# Altium integrated library Linear Technology PMIC-Switching Reg LTC1174-LTC3901.IntLib: 2647 symbols (part 43 of 310)
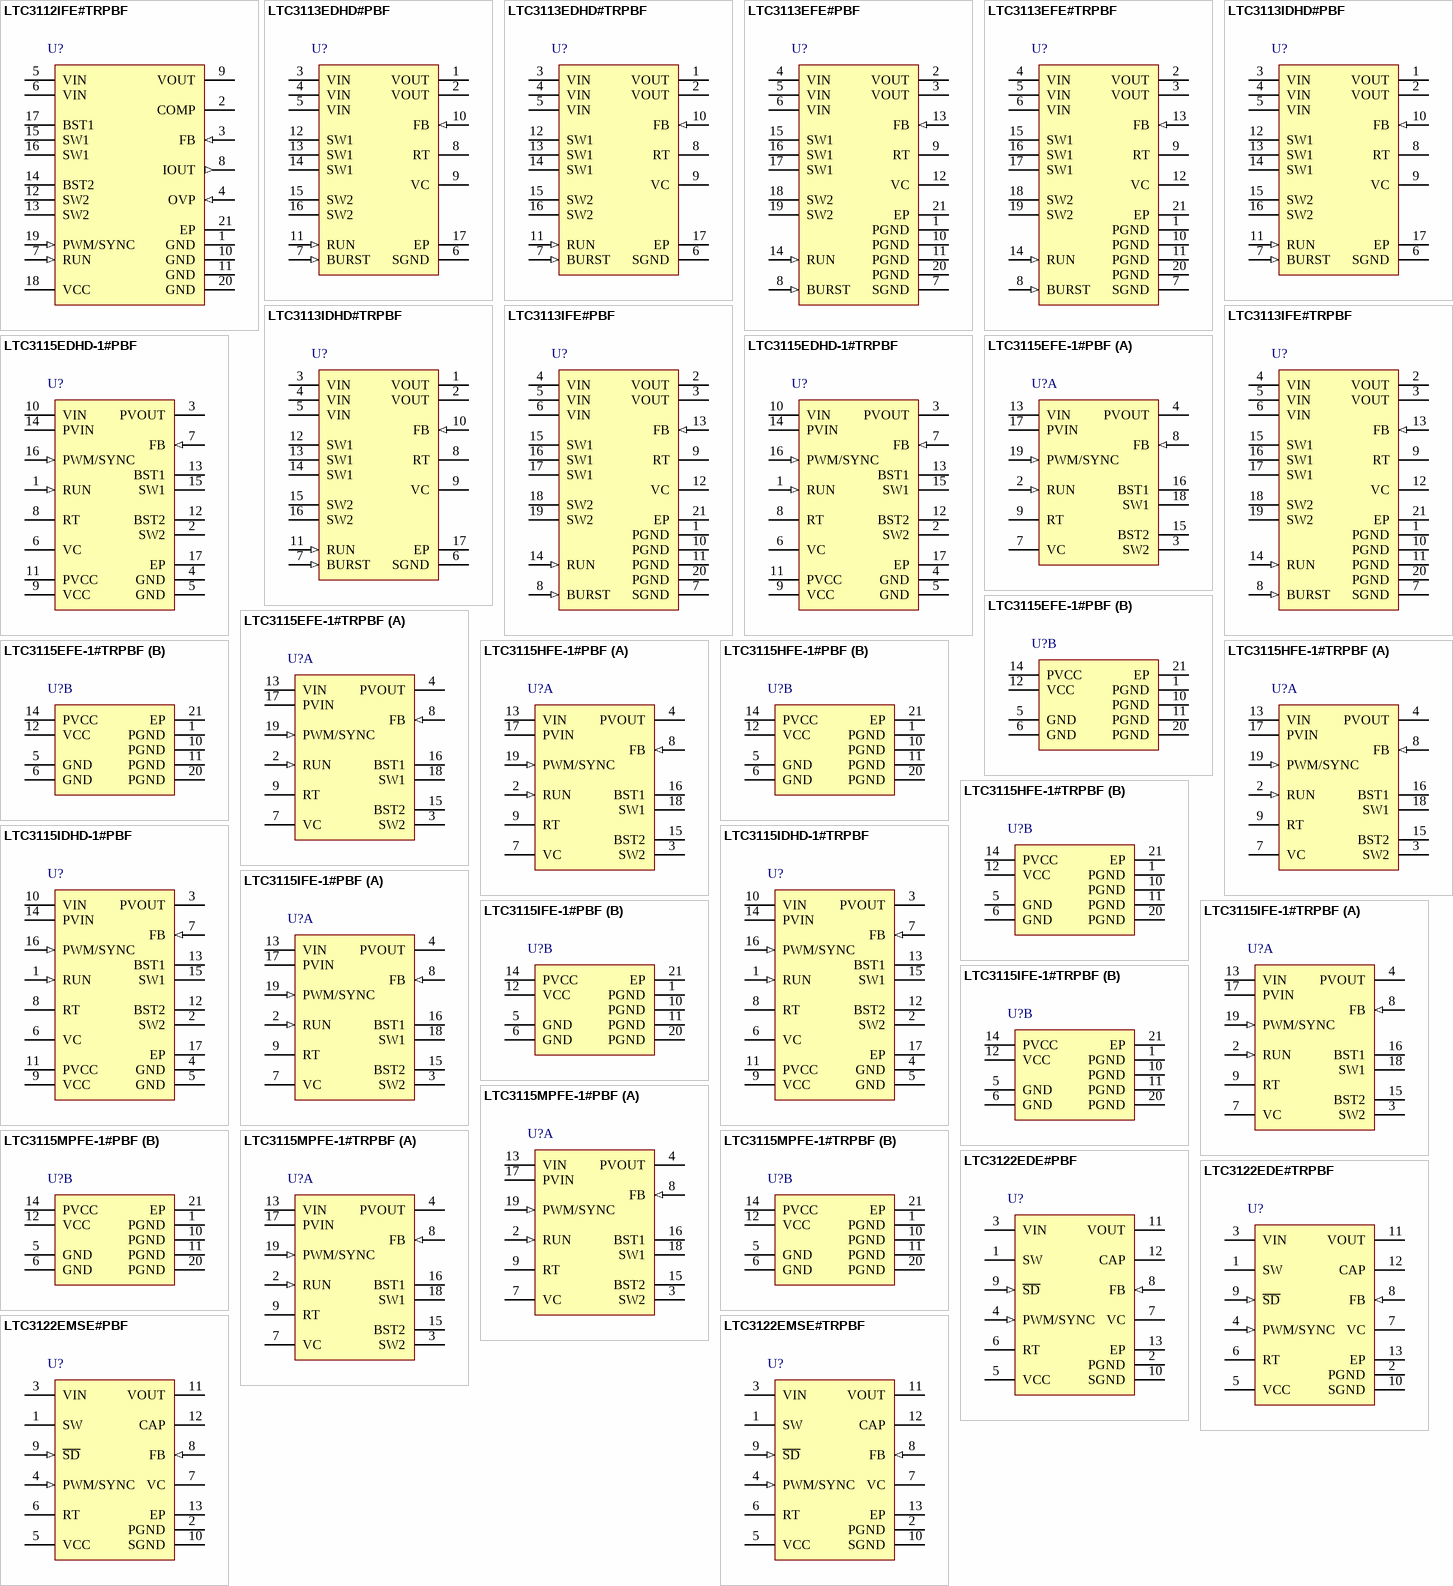
[diagram p141: symbols LTC3112IFE#TRPBF to LTC3122EMSE#TRPBF]

## LTC3122EDE#TRPBF
designator U?
2.5 A Synchronous Step-Up DC/DC Converter with Output Disconnect, 12-pin SON (DE-UE-12), -40 to 125 degC, Pb-Free, Tape and Reel; Manufacturer: Linear Technology; PartNumber: LTC3122EDE#TRPBF; Number of Outputs: 1; PackageReference: DE-UE-12; PackageDescription: 12-Pin Plastic DFN, Body 4 x 3 mm, Pitch 0.5 mm; Supplier 1: Digi-Key; Supplier Part Number 1: LTC3122EDE#TRPBF-ND; RoHS: TRUE; Code_JEDEC: MO-229
footprint LT-DE-UE-12_V (SON, 12-Leads, Body 4x3mm, Pitch 0.5mm, Thermal Pad 3.3x1.7mm)
pins: 1 SW "Switch Pin. Connect an inductor from this pin to VIN. Keep PCB trace lengths as short and wide as possible to reduce EMI and voltage overshoot. When VOUT >= VIN + 2V, an internal anti-ringing resistor is connected between SW (See Datasheet)", 2 PGND (power) "Power Ground. When laying out your PCB, provide a short, direct path between PGND and the output capacitor and tie directly to the ground plane. The exposed pad is ground and must be soldered to the PCB ground plane for (See Datasheet)", 3 VIN (power) "Input Supply Pin. The device is powered from VIN unless VOUT exceeds VIN and VIN is less than 3V. Place a low ESR ceramic bypass capacitor of at least 4.7uF from VIN to PGND. X5R and X7R dielectrics are preferred for their (See Datasheet)", 4 PWM/SYNC (in) "Burst Mode Operation Select and Oscillator Synchronization. Do not leave this pin floating.PWM/SYNC = High. Disable Burst Mode Operation and maintain low noise, constant frequency operation. PWM/SYNC = Low. The converter (See Datasheet)", 5 VCC (power) "VCC Regulator Output. Connect a low-ESR filter capacitor of at least 4.7uF from this pin to GND to provide a regulated rail approximately equal to the lower of VIN and 4.25V. When VOUT is higher than VIN, and VIN falls below (See Datasheet)", 6 RT "Frequency Adjust Pin. Connect an external resistor (RT) from this pin to SGND to program the oscillator frequency according to the formula: RT = 57.6/fOSC where fOSC is in MHz and RT is in kohm.", 7 VC "Error Amplifier Output. A frequency compensation network is connected to this pin to compensate the control loop. See Compensating the Feedback Loop section for guidelines.", 8 FB (in) "Feedback Input to the Error Amplifier. Connect the resistor divider tap to this pin. Connect the top of the divider to VOUT and the bottom of the divider to SGND. The output voltage can be adjusted from 2.2V to 15V according (See Datasheet)", 9 ~{SD} (in) "Logic Controlled Shutdown Input. Bringing this pin above 1.6V enables normal, free-running operation, forcing this pin below 0.25V shuts the LTC3122 down, with quiescent current below 1uA. Do not leave this pin floating.", 10 SGND (power) "Signal Ground. When laying out a PC board, provide a short, direct path between SGND and the (-) side of the output capacitor.", 11 VOUT (power) "Output Voltage Sense and the Source of the Internal Synchronous Rectifier MOSFET. Driver bias is derived from VOUT. Connect the output filter capacitor from VOUT to PGND, as close to the IC as possible. A minimum value of (See Datasheet)", 12 CAP "Serves as the Low Reference for the Synchronous Rectifier Gate Drive. Connect a low ESR filter capacitor (typically 100nF) from this pin to VOUT to provide an elevated ground rail, approximately 5.6V below VOUT, used to (See Datasheet)", 13 EP (power) "Power Ground. When laying out your PCB, provide a short, direct path between PGND and the output capacitor and tie directly to the ground plane. The exposed pad is ground and must be soldered to the PCB ground plane for (See Datasheet)"

## LTC3122EMSE#PBF
designator U?
2.5 A Synchronous Step-Up DC/DC Converter with Output Disconnect,12-pin SOP (MSE-12-EDP), -40 to 125 degC, Pb-Free; Manufacturer: Linear Technology; PartNumber: LTC3122EMSE#PBF; Number of Outputs: 1; PackageReference: MSE-12-EDP; PackageDescription: 12-Pin Plastic MSOP, Exposed Die Pad, Body 4.039 x 3 mm, Pitch 0.65 mm; Supplier 1: Digi-Key; Supplier Part Number 1: LTC3122EMSE#PBF-ND; RoHS: TRUE
footprint LT-MSE-12-EDP_N (SOP, 12-Leads, Body 4.1x3.1mm, Pitch 0.65mm, Thermal Pad 2.95x1.76mm, IPC Medium Density)
footprint LT-MSE-12-EDP_L (SOP, 12-Leads, Body 4.1x3.1mm, Pitch 0.65mm, Thermal Pad 2.95x1.76mm, IPC High Density)
footprint LT-MSE-12-EDP_M (SOP, 12-Leads, Body 4.1x3.1mm, Pitch 0.65mm, Thermal Pad 2.95x1.76mm, IPC Low Density)
pins: 1 SW "Switch Pin. Connect an inductor from this pin to VIN. Keep PCB trace lengths as short and wide as possible to reduce EMI and voltage overshoot. When VOUT >= VIN + 2V, an internal anti-ringing resistor is connected between SW (See Datasheet)", 2 PGND (power) "Power Ground. When laying out your PCB, provide a short, direct path between PGND and the output capacitor and tie directly to the ground plane. The exposed pad is ground and must be soldered to the PCB ground plane for (See Datasheet)", 3 VIN (power) "Input Supply Pin. The device is powered from VIN unless VOUT exceeds VIN and VIN is less than 3V. Place a low ESR ceramic bypass capacitor of at least 4.7uF from VIN to PGND. X5R and X7R dielectrics are preferred for their (See Datasheet)", 4 PWM/SYNC (in) "Burst Mode Operation Select and Oscillator Synchronization. Do not leave this pin floating.PWM/SYNC = High. Disable Burst Mode Operation and maintain low noise, constant frequency operation. PWM/SYNC = Low. The converter (See Datasheet)", 5 VCC (power) "VCC Regulator Output. Connect a low-ESR filter capacitor of at least 4.7uF from this pin to GND to provide a regulated rail approximately equal to the lower of VIN and 4.25V. When VOUT is higher than VIN, and VIN falls below (See Datasheet)", 6 RT "Frequency Adjust Pin. Connect an external resistor (RT) from this pin to SGND to program the oscillator frequency according to the formula: RT = 57.6/fOSC where fOSC is in MHz and RT is in kohm.", 7 VC "Error Amplifier Output. A frequency compensation network is connected to this pin to compensate the control loop. See Compensating the Feedback Loop section for guidelines.", 8 FB (in) "Feedback Input to the Error Amplifier. Connect the resistor divider tap to this pin. Connect the top of the divider to VOUT and the bottom of the divider to SGND. The output voltage can be adjusted from 2.2V to 15V according (See Datasheet)", 9 ~{SD} (in) "Logic Controlled Shutdown Input. Bringing this pin above 1.6V enables normal, free-running operation, forcing this pin below 0.25V shuts the LTC3122 down, with quiescent current below 1uA. Do not leave this pin floating.", 10 SGND (power) "Signal Ground. When laying out a PC board, provide a short, direct path between SGND and the (-) side of the output capacitor.", 11 VOUT (power) "Output Voltage Sense and the Source of the Internal Synchronous Rectifier MOSFET. Driver bias is derived from VOUT. Connect the output filter capacitor from VOUT to PGND, as close to the IC as possible. A minimum value of (See Datasheet)", 12 CAP "Serves as the Low Reference for the Synchronous Rectifier Gate Drive. Connect a low ESR filter capacitor (typically 100nF) from this pin to VOUT to provide an elevated ground rail, approximately 5.6V below VOUT, used to (See Datasheet)", 13 EP (power) "Power Ground. When laying out your PCB, provide a short, direct path between PGND and the output capacitor and tie directly to the ground plane. The exposed pad is ground and must be soldered to the PCB ground plane for (See Datasheet)"

## LTC3122EMSE#TRPBF
designator U?
2.5 A Synchronous Step-Up DC/DC Converter with Output Disconnect,12-pin SOP (MSE-12-EDP), -40 to 125 degC, Pb-Free, Tape and Reel; Manufacturer: Linear Technology; PartNumber: LTC3122EMSE#TRPBF; Number of Outputs: 1; PackageReference: MSE-12-EDP; PackageDescription: 12-Pin Plastic MSOP, Exposed Die Pad, Body 4.039 x 3 mm, Pitch 0.65 mm; Supplier 1: Digi-Key; Supplier Part Number 1: LTC3122EMSE#TRPBF-ND; RoHS: TRUE
footprint LT-MSE-12-EDP_N (SOP, 12-Leads, Body 4.1x3.1mm, Pitch 0.65mm, Thermal Pad 2.95x1.76mm, IPC Medium Density)
footprint LT-MSE-12-EDP_L (SOP, 12-Leads, Body 4.1x3.1mm, Pitch 0.65mm, Thermal Pad 2.95x1.76mm, IPC High Density)
footprint LT-MSE-12-EDP_M (SOP, 12-Leads, Body 4.1x3.1mm, Pitch 0.65mm, Thermal Pad 2.95x1.76mm, IPC Low Density)
pins: 1 SW "Switch Pin. Connect an inductor from this pin to VIN. Keep PCB trace lengths as short and wide as possible to reduce EMI and voltage overshoot. When VOUT >= VIN + 2V, an internal anti-ringing resistor is connected between SW (See Datasheet)", 2 PGND (power) "Power Ground. When laying out your PCB, provide a short, direct path between PGND and the output capacitor and tie directly to the ground plane. The exposed pad is ground and must be soldered to the PCB ground plane for (See Datasheet)", 3 VIN (power) "Input Supply Pin. The device is powered from VIN unless VOUT exceeds VIN and VIN is less than 3V. Place a low ESR ceramic bypass capacitor of at least 4.7uF from VIN to PGND. X5R and X7R dielectrics are preferred for their (See Datasheet)", 4 PWM/SYNC (in) "Burst Mode Operation Select and Oscillator Synchronization. Do not leave this pin floating.PWM/SYNC = High. Disable Burst Mode Operation and maintain low noise, constant frequency operation. PWM/SYNC = Low. The converter (See Datasheet)", 5 VCC (power) "VCC Regulator Output. Connect a low-ESR filter capacitor of at least 4.7uF from this pin to GND to provide a regulated rail approximately equal to the lower of VIN and 4.25V. When VOUT is higher than VIN, and VIN falls below (See Datasheet)", 6 RT "Frequency Adjust Pin. Connect an external resistor (RT) from this pin to SGND to program the oscillator frequency according to the formula: RT = 57.6/fOSC where fOSC is in MHz and RT is in kohm.", 7 VC "Error Amplifier Output. A frequency compensation network is connected to this pin to compensate the control loop. See Compensating the Feedback Loop section for guidelines.", 8 FB (in) "Feedback Input to the Error Amplifier. Connect the resistor divider tap to this pin. Connect the top of the divider to VOUT and the bottom of the divider to SGND. The output voltage can be adjusted from 2.2V to 15V according (See Datasheet)", 9 ~{SD} (in) "Logic Controlled Shutdown Input. Bringing this pin above 1.6V enables normal, free-running operation, forcing this pin below 0.25V shuts the LTC3122 down, with quiescent current below 1uA. Do not leave this pin floating.", 10 SGND (power) "Signal Ground. When laying out a PC board, provide a short, direct path between SGND and the (-) side of the output capacitor.", 11 VOUT (power) "Output Voltage Sense and the Source of the Internal Synchronous Rectifier MOSFET. Driver bias is derived from VOUT. Connect the output filter capacitor from VOUT to PGND, as close to the IC as possible. A minimum value of (See Datasheet)", 12 CAP "Serves as the Low Reference for the Synchronous Rectifier Gate Drive. Connect a low ESR filter capacitor (typically 100nF) from this pin to VOUT to provide an elevated ground rail, approximately 5.6V below VOUT, used to (See Datasheet)", 13 EP (power) "Power Ground. When laying out your PCB, provide a short, direct path between PGND and the output capacitor and tie directly to the ground plane. The exposed pad is ground and must be soldered to the PCB ground plane for (See Datasheet)"

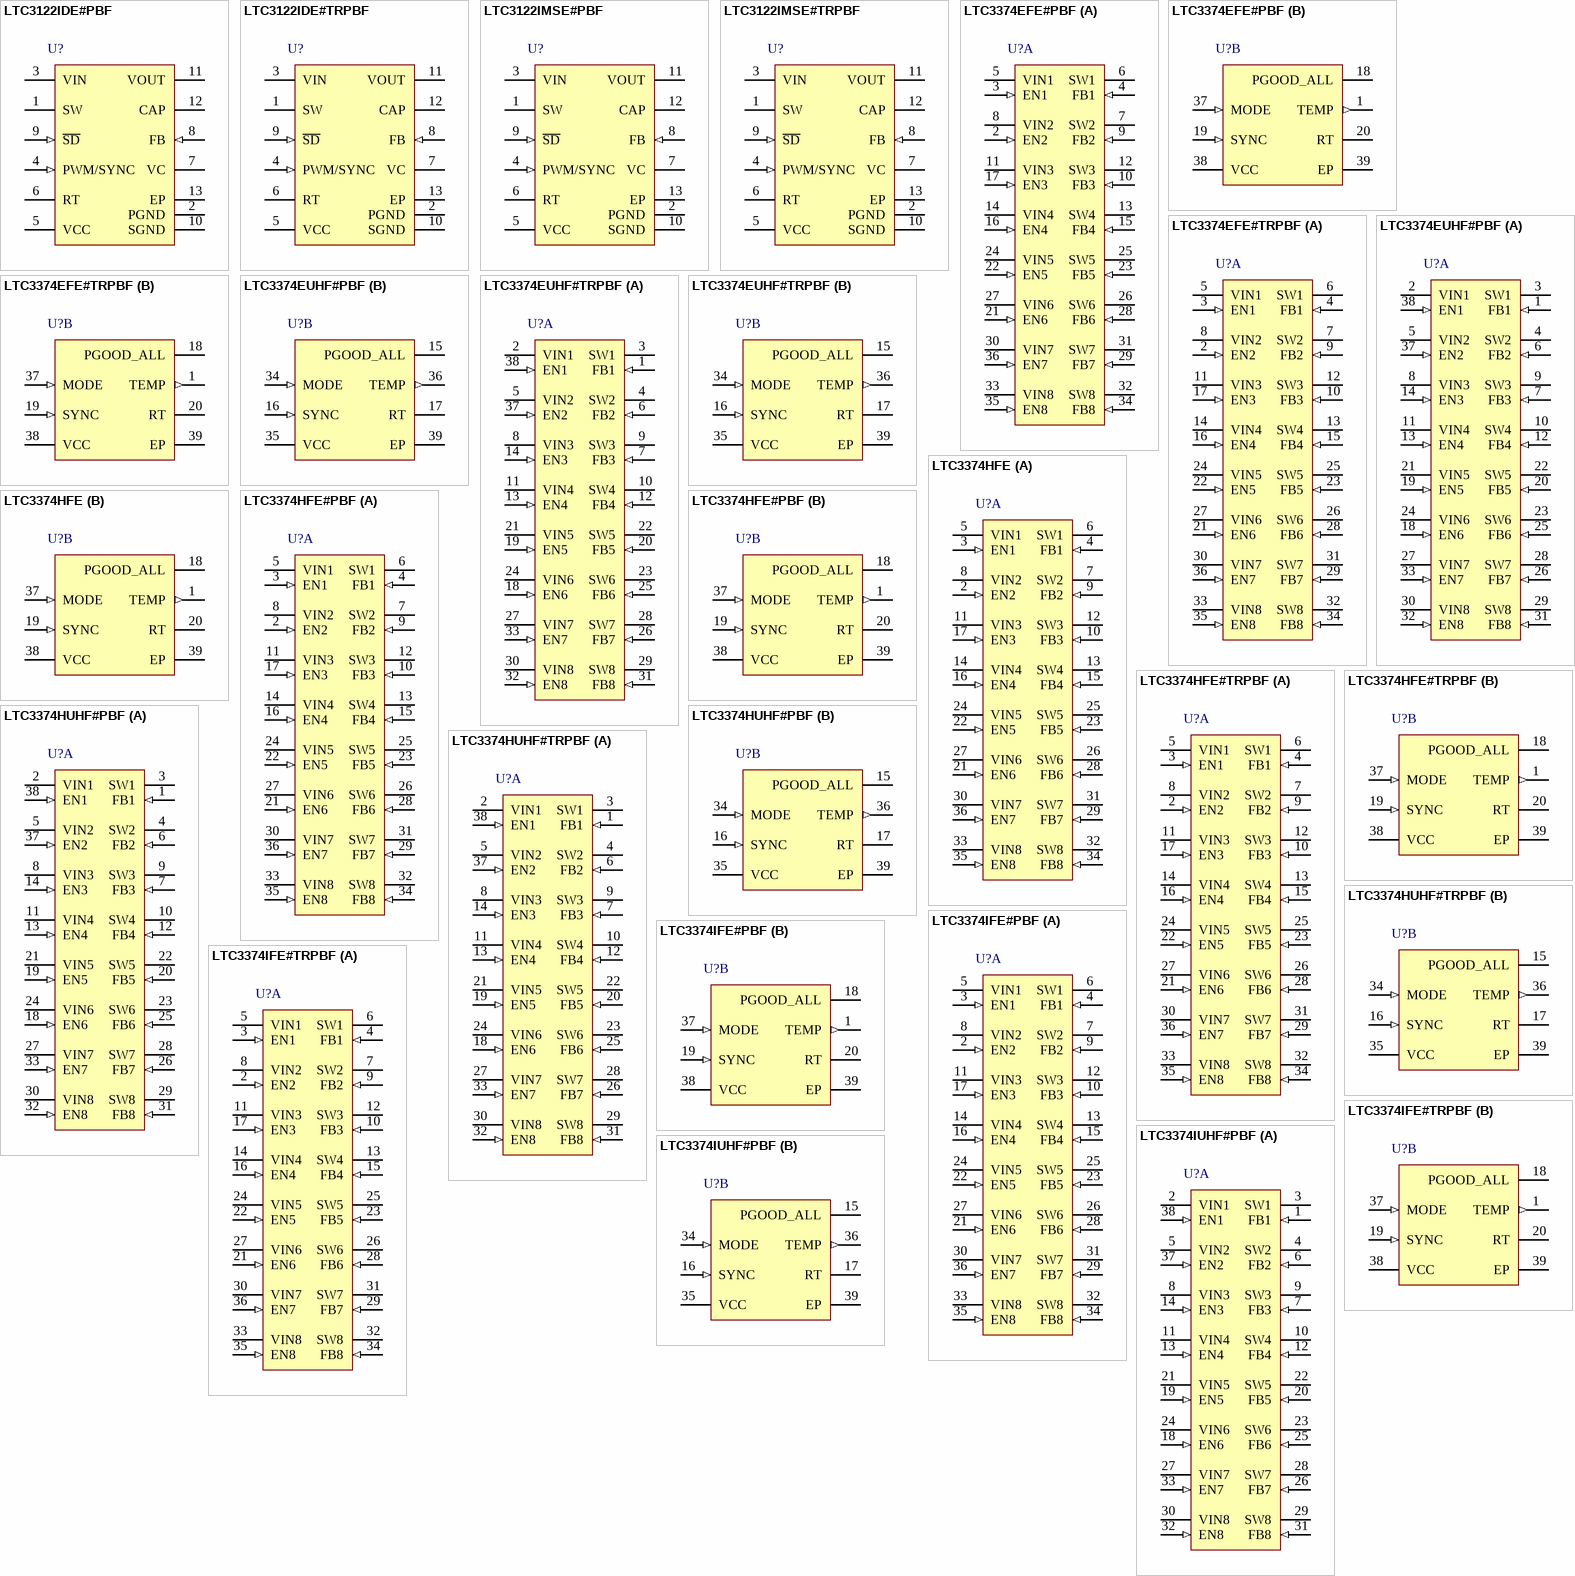
[diagram p15: symbols LTC3122IDE#PBF to LTC3374IUHF#PBF]

## LTC3122IDE#PBF
designator U?
2.5 A Synchronous Step-Up DC/DC Converter with Output Disconnect, 12-pin SON (DE-UE-12), -40 to 125 degC, Pb-Free; Manufacturer: Linear Technology; PartNumber: LTC3122IDE#PBF; Number of Outputs: 1; PackageReference: DE-UE-12; PackageDescription: 12-Pin Plastic DFN, Body 4 x 3 mm, Pitch 0.5 mm; Supplier 1: Digi-Key; Supplier Part Number 1: LTC3122IDE#PBF-ND; RoHS: TRUE; Code_JEDEC: MO-229
footprint LT-DE-UE-12_V (SON, 12-Leads, Body 4x3mm, Pitch 0.5mm, Thermal Pad 3.3x1.7mm)
pins: 1 SW "Switch Pin. Connect an inductor from this pin to VIN. Keep PCB trace lengths as short and wide as possible to reduce EMI and voltage overshoot. When VOUT >= VIN + 2V, an internal anti-ringing resistor is connected between SW (See Datasheet)", 2 PGND (power) "Power Ground. When laying out your PCB, provide a short, direct path between PGND and the output capacitor and tie directly to the ground plane. The exposed pad is ground and must be soldered to the PCB ground plane for (See Datasheet)", 3 VIN (power) "Input Supply Pin. The device is powered from VIN unless VOUT exceeds VIN and VIN is less than 3V. Place a low ESR ceramic bypass capacitor of at least 4.7uF from VIN to PGND. X5R and X7R dielectrics are preferred for their (See Datasheet)", 4 PWM/SYNC (in) "Burst Mode Operation Select and Oscillator Synchronization. Do not leave this pin floating.PWM/SYNC = High. Disable Burst Mode Operation and maintain low noise, constant frequency operation. PWM/SYNC = Low. The converter (See Datasheet)", 5 VCC (power) "VCC Regulator Output. Connect a low-ESR filter capacitor of at least 4.7uF from this pin to GND to provide a regulated rail approximately equal to the lower of VIN and 4.25V. When VOUT is higher than VIN, and VIN falls below (See Datasheet)", 6 RT "Frequency Adjust Pin. Connect an external resistor (RT) from this pin to SGND to program the oscillator frequency according to the formula: RT = 57.6/fOSC where fOSC is in MHz and RT is in kohm.", 7 VC "Error Amplifier Output. A frequency compensation network is connected to this pin to compensate the control loop. See Compensating the Feedback Loop section for guidelines.", 8 FB (in) "Feedback Input to the Error Amplifier. Connect the resistor divider tap to this pin. Connect the top of the divider to VOUT and the bottom of the divider to SGND. The output voltage can be adjusted from 2.2V to 15V according (See Datasheet)", 9 ~{SD} (in) "Logic Controlled Shutdown Input. Bringing this pin above 1.6V enables normal, free-running operation, forcing this pin below 0.25V shuts the LTC3122 down, with quiescent current below 1uA. Do not leave this pin floating.", 10 SGND (power) "Signal Ground. When laying out a PC board, provide a short, direct path between SGND and the (-) side of the output capacitor.", 11 VOUT (power) "Output Voltage Sense and the Source of the Internal Synchronous Rectifier MOSFET. Driver bias is derived from VOUT. Connect the output filter capacitor from VOUT to PGND, as close to the IC as possible. A minimum value of (See Datasheet)", 12 CAP "Serves as the Low Reference for the Synchronous Rectifier Gate Drive. Connect a low ESR filter capacitor (typically 100nF) from this pin to VOUT to provide an elevated ground rail, approximately 5.6V below VOUT, used to (See Datasheet)", 13 EP (power) "Power Ground. When laying out your PCB, provide a short, direct path between PGND and the output capacitor and tie directly to the ground plane. The exposed pad is ground and must be soldered to the PCB ground plane for (See Datasheet)"

## LTC3122IDE#TRPBF
designator U?
2.5 A Synchronous Step-Up DC/DC Converter with Output Disconnect, 12-pin SON (DE-UE-12), -40 to 125 degC, Pb-Free, Tape and Reel; Manufacturer: Linear Technology; PartNumber: LTC3122IDE#TRPBF; Number of Outputs: 1; PackageReference: DE-UE-12; PackageDescription: 12-Pin Plastic DFN, Body 4 x 3 mm, Pitch 0.5 mm; Supplier 1: Digi-Key; Supplier Part Number 1: LTC3122IDE#TRPBF-ND; RoHS: TRUE; Code_JEDEC: MO-229
footprint LT-DE-UE-12_V (SON, 12-Leads, Body 4x3mm, Pitch 0.5mm, Thermal Pad 3.3x1.7mm)
pins: 1 SW "Switch Pin. Connect an inductor from this pin to VIN. Keep PCB trace lengths as short and wide as possible to reduce EMI and voltage overshoot. When VOUT >= VIN + 2V, an internal anti-ringing resistor is connected between SW (See Datasheet)", 2 PGND (power) "Power Ground. When laying out your PCB, provide a short, direct path between PGND and the output capacitor and tie directly to the ground plane. The exposed pad is ground and must be soldered to the PCB ground plane for (See Datasheet)", 3 VIN (power) "Input Supply Pin. The device is powered from VIN unless VOUT exceeds VIN and VIN is less than 3V. Place a low ESR ceramic bypass capacitor of at least 4.7uF from VIN to PGND. X5R and X7R dielectrics are preferred for their (See Datasheet)", 4 PWM/SYNC (in) "Burst Mode Operation Select and Oscillator Synchronization. Do not leave this pin floating.PWM/SYNC = High. Disable Burst Mode Operation and maintain low noise, constant frequency operation. PWM/SYNC = Low. The converter (See Datasheet)", 5 VCC (power) "VCC Regulator Output. Connect a low-ESR filter capacitor of at least 4.7uF from this pin to GND to provide a regulated rail approximately equal to the lower of VIN and 4.25V. When VOUT is higher than VIN, and VIN falls below (See Datasheet)", 6 RT "Frequency Adjust Pin. Connect an external resistor (RT) from this pin to SGND to program the oscillator frequency according to the formula: RT = 57.6/fOSC where fOSC is in MHz and RT is in kohm.", 7 VC "Error Amplifier Output. A frequency compensation network is connected to this pin to compensate the control loop. See Compensating the Feedback Loop section for guidelines.", 8 FB (in) "Feedback Input to the Error Amplifier. Connect the resistor divider tap to this pin. Connect the top of the divider to VOUT and the bottom of the divider to SGND. The output voltage can be adjusted from 2.2V to 15V according (See Datasheet)", 9 ~{SD} (in) "Logic Controlled Shutdown Input. Bringing this pin above 1.6V enables normal, free-running operation, forcing this pin below 0.25V shuts the LTC3122 down, with quiescent current below 1uA. Do not leave this pin floating.", 10 SGND (power) "Signal Ground. When laying out a PC board, provide a short, direct path between SGND and the (-) side of the output capacitor.", 11 VOUT (power) "Output Voltage Sense and the Source of the Internal Synchronous Rectifier MOSFET. Driver bias is derived from VOUT. Connect the output filter capacitor from VOUT to PGND, as close to the IC as possible. A minimum value of (See Datasheet)", 12 CAP "Serves as the Low Reference for the Synchronous Rectifier Gate Drive. Connect a low ESR filter capacitor (typically 100nF) from this pin to VOUT to provide an elevated ground rail, approximately 5.6V below VOUT, used to (See Datasheet)", 13 EP (power) "Power Ground. When laying out your PCB, provide a short, direct path between PGND and the output capacitor and tie directly to the ground plane. The exposed pad is ground and must be soldered to the PCB ground plane for (See Datasheet)"

## LTC3122IMSE#PBF
designator U?
2.5 A Synchronous Step-Up DC/DC Converter with Output Disconnect,12-pin SOP (MSE-12-EDP), -40 to 125 degC, Pb-Free; Manufacturer: Linear Technology; PartNumber: LTC3122IMSE#PBF; Number of Outputs: 1; PackageReference: MSE-12-EDP; PackageDescription: 12-Pin Plastic MSOP, Exposed Die Pad, Body 4.039 x 3 mm, Pitch 0.65 mm; Supplier 1: Digi-Key; Supplier Part Number 1: LTC3122IMSE#PBF-ND; RoHS: TRUE
footprint LT-MSE-12-EDP_N (SOP, 12-Leads, Body 4.1x3.1mm, Pitch 0.65mm, Thermal Pad 2.95x1.76mm, IPC Medium Density)
footprint LT-MSE-12-EDP_L (SOP, 12-Leads, Body 4.1x3.1mm, Pitch 0.65mm, Thermal Pad 2.95x1.76mm, IPC High Density)
footprint LT-MSE-12-EDP_M (SOP, 12-Leads, Body 4.1x3.1mm, Pitch 0.65mm, Thermal Pad 2.95x1.76mm, IPC Low Density)
pins: 1 SW "Switch Pin. Connect an inductor from this pin to VIN. Keep PCB trace lengths as short and wide as possible to reduce EMI and voltage overshoot. When VOUT >= VIN + 2V, an internal anti-ringing resistor is connected between SW (See Datasheet)", 2 PGND (power) "Power Ground. When laying out your PCB, provide a short, direct path between PGND and the output capacitor and tie directly to the ground plane. The exposed pad is ground and must be soldered to the PCB ground plane for (See Datasheet)", 3 VIN (power) "Input Supply Pin. The device is powered from VIN unless VOUT exceeds VIN and VIN is less than 3V. Place a low ESR ceramic bypass capacitor of at least 4.7uF from VIN to PGND. X5R and X7R dielectrics are preferred for their (See Datasheet)", 4 PWM/SYNC (in) "Burst Mode Operation Select and Oscillator Synchronization. Do not leave this pin floating.PWM/SYNC = High. Disable Burst Mode Operation and maintain low noise, constant frequency operation. PWM/SYNC = Low. The converter (See Datasheet)", 5 VCC (power) "VCC Regulator Output. Connect a low-ESR filter capacitor of at least 4.7uF from this pin to GND to provide a regulated rail approximately equal to the lower of VIN and 4.25V. When VOUT is higher than VIN, and VIN falls below (See Datasheet)", 6 RT "Frequency Adjust Pin. Connect an external resistor (RT) from this pin to SGND to program the oscillator frequency according to the formula: RT = 57.6/fOSC where fOSC is in MHz and RT is in kohm.", 7 VC "Error Amplifier Output. A frequency compensation network is connected to this pin to compensate the control loop. See Compensating the Feedback Loop section for guidelines.", 8 FB (in) "Feedback Input to the Error Amplifier. Connect the resistor divider tap to this pin. Connect the top of the divider to VOUT and the bottom of the divider to SGND. The output voltage can be adjusted from 2.2V to 15V according (See Datasheet)", 9 ~{SD} (in) "Logic Controlled Shutdown Input. Bringing this pin above 1.6V enables normal, free-running operation, forcing this pin below 0.25V shuts the LTC3122 down, with quiescent current below 1uA. Do not leave this pin floating.", 10 SGND (power) "Signal Ground. When laying out a PC board, provide a short, direct path between SGND and the (-) side of the output capacitor.", 11 VOUT (power) "Output Voltage Sense and the Source of the Internal Synchronous Rectifier MOSFET. Driver bias is derived from VOUT. Connect the output filter capacitor from VOUT to PGND, as close to the IC as possible. A minimum value of (See Datasheet)", 12 CAP "Serves as the Low Reference for the Synchronous Rectifier Gate Drive. Connect a low ESR filter capacitor (typically 100nF) from this pin to VOUT to provide an elevated ground rail, approximately 5.6V below VOUT, used to (See Datasheet)", 13 EP (power) "Power Ground. When laying out your PCB, provide a short, direct path between PGND and the output capacitor and tie directly to the ground plane. The exposed pad is ground and must be soldered to the PCB ground plane for (See Datasheet)"

## LTC3122IMSE#TRPBF
designator U?
2.5 A Synchronous Step-Up DC/DC Converter with Output Disconnect,12-pin SOP (MSE-12-EDP), -40 to 125 degC, Pb-Free, Tape and Reel; Manufacturer: Linear Technology; PartNumber: LTC3122IMSE#TRPBF; Number of Outputs: 1; PackageReference: MSE-12-EDP; PackageDescription: 12-Pin Plastic MSOP, Exposed Die Pad, Body 4.039 x 3 mm, Pitch 0.65 mm; Supplier 1: Digi-Key; Supplier Part Number 1: LTC3122IMSE#TRPBF-ND; RoHS: TRUE
footprint LT-MSE-12-EDP_N (SOP, 12-Leads, Body 4.1x3.1mm, Pitch 0.65mm, Thermal Pad 2.95x1.76mm, IPC Medium Density)
footprint LT-MSE-12-EDP_L (SOP, 12-Leads, Body 4.1x3.1mm, Pitch 0.65mm, Thermal Pad 2.95x1.76mm, IPC High Density)
footprint LT-MSE-12-EDP_M (SOP, 12-Leads, Body 4.1x3.1mm, Pitch 0.65mm, Thermal Pad 2.95x1.76mm, IPC Low Density)
pins: 1 SW "Switch Pin. Connect an inductor from this pin to VIN. Keep PCB trace lengths as short and wide as possible to reduce EMI and voltage overshoot. When VOUT >= VIN + 2V, an internal anti-ringing resistor is connected between SW (See Datasheet)", 2 PGND (power) "Power Ground. When laying out your PCB, provide a short, direct path between PGND and the output capacitor and tie directly to the ground plane. The exposed pad is ground and must be soldered to the PCB ground plane for (See Datasheet)", 3 VIN (power) "Input Supply Pin. The device is powered from VIN unless VOUT exceeds VIN and VIN is less than 3V. Place a low ESR ceramic bypass capacitor of at least 4.7uF from VIN to PGND. X5R and X7R dielectrics are preferred for their (See Datasheet)", 4 PWM/SYNC (in) "Burst Mode Operation Select and Oscillator Synchronization. Do not leave this pin floating.PWM/SYNC = High. Disable Burst Mode Operation and maintain low noise, constant frequency operation. PWM/SYNC = Low. The converter (See Datasheet)", 5 VCC (power) "VCC Regulator Output. Connect a low-ESR filter capacitor of at least 4.7uF from this pin to GND to provide a regulated rail approximately equal to the lower of VIN and 4.25V. When VOUT is higher than VIN, and VIN falls below (See Datasheet)", 6 RT "Frequency Adjust Pin. Connect an external resistor (RT) from this pin to SGND to program the oscillator frequency according to the formula: RT = 57.6/fOSC where fOSC is in MHz and RT is in kohm.", 7 VC "Error Amplifier Output. A frequency compensation network is connected to this pin to compensate the control loop. See Compensating the Feedback Loop section for guidelines.", 8 FB (in) "Feedback Input to the Error Amplifier. Connect the resistor divider tap to this pin. Connect the top of the divider to VOUT and the bottom of the divider to SGND. The output voltage can be adjusted from 2.2V to 15V according (See Datasheet)", 9 ~{SD} (in) "Logic Controlled Shutdown Input. Bringing this pin above 1.6V enables normal, free-running operation, forcing this pin below 0.25V shuts the LTC3122 down, with quiescent current below 1uA. Do not leave this pin floating.", 10 SGND (power) "Signal Ground. When laying out a PC board, provide a short, direct path between SGND and the (-) side of the output capacitor.", 11 VOUT (power) "Output Voltage Sense and the Source of the Internal Synchronous Rectifier MOSFET. Driver bias is derived from VOUT. Connect the output filter capacitor from VOUT to PGND, as close to the IC as possible. A minimum value of (See Datasheet)", 12 CAP "Serves as the Low Reference for the Synchronous Rectifier Gate Drive. Connect a low ESR filter capacitor (typically 100nF) from this pin to VOUT to provide an elevated ground rail, approximately 5.6V below VOUT, used to (See Datasheet)", 13 EP (power) "Power Ground. When laying out your PCB, provide a short, direct path between PGND and the output capacitor and tie directly to the ground plane. The exposed pad is ground and must be soldered to the PCB ground plane for (See Datasheet)"

## LTC3374EFE#PBF
designator U?
8-Channel Parallelable 1 A Buck Regulator, 38-pin SOP (FE-38-EPV-AA), -40 to 125 degC, Pb-Free; Manufacturer: Linear Technology; PartNumber: LTC3374EFE#PBF; Number of Outputs: 8; PackageReference: FE-38; PackageDescription: 38-Pin Plastic TSSOP, Body 9.7 x 4.4 mm, Pitch 0.5 mm; Supplier 1: Digi-Key; Supplier Part Number 1: LTC3374EFE#PBF-ND; RoHS: TRUE
footprint LT-FE-38-EPV-AA_N (SOP, 38-Leads, Body 9.8x4.5mm, Pitch 0.5mm, Thermal Pad 4.75x2.74mm, IPC Medium Density)
footprint LT-FE-38-EPV-AA_L (SOP, 38-Leads, Body 9.8x4.5mm, Pitch 0.5mm, Thermal Pad 4.75x2.74mm, IPC High Density)
footprint LT-FE-38-EPV-AA_M (SOP, 38-Leads, Body 9.8x4.5mm, Pitch 0.5mm, Thermal Pad 4.75x2.74mm, IPC Low Density)
part A pins: 2 EN2 (in) "Buck Regulator 2 Enable Input. Active high.", 3 EN1 (in) "Buck Regulator 1 Enable Input. Active high.", 4 FB1 (in) "Buck Regulator 1 Feedback Pin. Receives feedback by a resistor divider connected across the output.", 5 VIN1 (power) "Buck Regulator 1 Input Supply. Bypass to GND with a 10uF or larger ceramic capacitor.", 6 SW1 (power) "Buck Regulator 1 Switch Node. External inductor connects to this pin.", 7 SW2 (power) "Buck Regulator 2 Switch Node. External inductor connects to this pin.", 8 VIN2 (power) "Buck Regulator 2 Input Supply. Bypass to GND with a 10uF or larger ceramic capacitor. May be driven by an independent supply or must be shorted to VIN1 when buck regulator 2 is combined with buck regulator 1 for higher (See Datasheet)", 9 FB2 (in) "Buck Regulator 2 Feedback Pin. Receives feedback by a resistor divider connected across the output. Connecting FB2 to VIN2 combines buck regulator 2 with buck regulator 1 for higher current. Up to four converters may be (See Datasheet)", 10 FB3 (in) "Buck Regulator 3 Feedback Pin. Receives feedback by a resistor divider connected across the output. Connecting FB3 to VIN3 combines buck regulator 3 with buck regulator 2 for higher current. Up to four converters may be (See Datasheet)", 11 VIN3 (power) "Buck Regulator 3 Input Supply. Bypass to GND with a 10uF or larger ceramic capacitor. May be driven by an independent supply or must be shorted to VIN2 when buck regulator 3 is combined with buck regulator 2 for higher (See Datasheet)", 12 SW3 (power) "Buck Regulator 3 Switch Node. External inductor connects to this pin.", 13 SW4 (power) "Buck Regulator 4 Switch Node. External inductor connects to this pin.", 14 VIN4 (power) "Buck Regulator 4 Input Supply. Bypass to GND with a 10uF or larger ceramic capacitor. May be driven by an independent supply or must be shorted to VIN3 when buck regulator 4 is combined with buck regulator 3 for higher (See Datasheet)", 15 FB4 (in) "Buck Regulator 4 Feedback Pin. Receives feedback by a resistor divider connected across the output. Connecting FB4 to VIN4 combines buck regulator 4 with buck regulator 3 for higher current. Up to four converters may be (See Datasheet)", 16 EN4 (in) "Buck Regulator 4 Enable Input. Active high.", 17 EN3 (in) "Buck Regulator 3 Enable Input. Active high.", 21 EN6 (in) "Buck Regulator 6 Enable Input. Active high.", 22 EN5 (in) "Buck Regulator 5 Enable Input. Active high.", 23 FB5 (in) "Buck Regulator 5 Feedback Pin. Receives feedback by a resistor divider connected across the output. Connecting FB5 to VIN5 combines buck regulator 5 with buck regulator 4 for higher current. Up to four converters may be (See Datasheet)", 24 VIN5 (power) "Buck Regulator 5 Input Supply. Bypass to GND with a 10uF or larger ceramic capacitor. May be driven by an independent supply or must be shorted to VIN4 when buck regulator 5 is combined with buck regulator 4 for higher (See Datasheet)", 25 SW5 (power) "Buck Regulator 5 Switch Node. External inductor connects to this pin.", 26 SW6 (power) "Buck Regulator 6 Switch Node. External inductor connects to this pin.", 27 VIN6 (power) "Buck Regulator 6 Input Supply. Bypass to GND with a 10uF or larger ceramic capacitor. May be driven by an independent supply or must be shorted to VIN5 when buck regulator 6 is combined with buck regulator 5 for higher (See Datasheet)", 28 FB6 (in) "Buck Regulator 6 Feedback Pin. Receives feedback by a resistor divider connected across the output. Connecting FB6 to VIN6 combines buck regulator 6 with buck regulator 5 for higher current. Up to four converters may be (See Datasheet)", 29 FB7 (in) "Buck Regulator 7 Feedback Pin. Receives feedback by a resistor divider connected across the output. Connecting FB7 to VIN7 combines buck regulator 7 with buck regulator 6 for higher current. Up to four converters may be (See Datasheet)", 30 VIN7 (power) "Buck Regulator 7 Input Supply. Bypass to GND with a 10uF or larger ceramic capacitor. May be driven by an independent supply or must be shorted to VIN6 when buck regulator 7 is combined with buck regulator 6 for higher (See Datasheet)", 31 SW7 (power) "Buck Regulator 7 Switch Node. External inductor connects to this pin.", 32 SW8 (power) "Buck Regulator 8 Switch Node. External inductor connects to this pin.", 33 VIN8 (power) "Buck Regulator 8 Input Supply. Bypass to GND with a 10uF or larger ceramic capacitor. May be driven by an independent supply or must be shorted to VIN7 when buck regulator 8 is combined with buck regulator 7 for higher (See Datasheet)", 34 FB8 (in) "Buck Regulator 8 Feedback Pin. Receives feedback by a resistor divider connected across the output. Connecting FB8 to VIN8 combines buck regulator 8 with buck regulator 7 for higher current. Up to four converters may be (See Datasheet)", 35 EN8 (in) "Buck Regulator 8 Enable Input. Active high.", 36 EN7 (in) "Buck Regulator 7 Enable Input. Active high."
part B pins: 1 TEMP (out) "Temperature Indication Pin. TEMP outputs a voltage of 150mV (typical) at room temperature. The TEMP voltage will change by 6.75mV/degreesC (typical) giving an external indication of the LTC3374 internal die temperature.", 18 PGOOD_ALL (oc) "PGOOD Status Pin. Opendrain output. When the regulated output voltage of any enabled switching regulator is more than 7.5% below its programmed level, this pin is driven LOW. When all buck regulators are disabled PGOOD_ALL (See Datasheet)", 19 SYNC (in) "Oscillator Synchronization Pin. Driving SYNC with an external clock signal will synchronize all switchers to the applied frequency. The slope compensation is automatically adapted to the external clock frequency. The absence (See Datasheet)", 20 RT "Oscillator Frequency Pin. This pin provides two modes of setting the switching frequency. Connecting a resistor from RT to ground will set the switching frequency based on the resistor value. If RT is tied to VCC the (See Datasheet)", 37 MODE (in) "Logic Input. MODE enables Burst Mode functionality for all the buck switching regulators when the pin is set low. When the pin is set high, all the buck switching regulators will operate in forced continuous mode.", 38 VCC (power) "Internal Bias Supply. Bypass to GND with a 10uF or larger ceramic capacitor.", 39 EP (power) "Ground. The exposed pad must be connected to a continuous ground plane on the printed circuit board directly under the LTC3374 for electrical contact and rated thermal performance."

## LTC3374EFE#TRPBF
designator U?
8-Channel Parallelable 1 A Buck Regulator, 38-pin SOP (FE-38-EPV-AA), -40 to 125 degC, Pb-Free, Tape and Reel; Manufacturer: Linear Technology; PartNumber: LTC3374EFE#TRPBF; Number of Outputs: 8; PackageReference: FE-38; PackageDescription: 38-Pin Plastic TSSOP, Body 9.7 x 4.4 mm, Pitch 0.5 mm; Supplier 1: Digi-Key; Supplier Part Number 1: LTC3374EFE#TRPBF-ND; RoHS: TRUE
footprint LT-FE-38-EPV-AA_N (SOP, 38-Leads, Body 9.8x4.5mm, Pitch 0.5mm, Thermal Pad 4.75x2.74mm, IPC Medium Density)
footprint LT-FE-38-EPV-AA_L (SOP, 38-Leads, Body 9.8x4.5mm, Pitch 0.5mm, Thermal Pad 4.75x2.74mm, IPC High Density)
footprint LT-FE-38-EPV-AA_M (SOP, 38-Leads, Body 9.8x4.5mm, Pitch 0.5mm, Thermal Pad 4.75x2.74mm, IPC Low Density)
part A pins: 2 EN2 (in) "Buck Regulator 2 Enable Input. Active high.", 3 EN1 (in) "Buck Regulator 1 Enable Input. Active high.", 4 FB1 (in) "Buck Regulator 1 Feedback Pin. Receives feedback by a resistor divider connected across the output.", 5 VIN1 (power) "Buck Regulator 1 Input Supply. Bypass to GND with a 10uF or larger ceramic capacitor.", 6 SW1 (power) "Buck Regulator 1 Switch Node. External inductor connects to this pin.", 7 SW2 (power) "Buck Regulator 2 Switch Node. External inductor connects to this pin.", 8 VIN2 (power) "Buck Regulator 2 Input Supply. Bypass to GND with a 10uF or larger ceramic capacitor. May be driven by an independent supply or must be shorted to VIN1 when buck regulator 2 is combined with buck regulator 1 for higher (See Datasheet)", 9 FB2 (in) "Buck Regulator 2 Feedback Pin. Receives feedback by a resistor divider connected across the output. Connecting FB2 to VIN2 combines buck regulator 2 with buck regulator 1 for higher current. Up to four converters may be (See Datasheet)", 10 FB3 (in) "Buck Regulator 3 Feedback Pin. Receives feedback by a resistor divider connected across the output. Connecting FB3 to VIN3 combines buck regulator 3 with buck regulator 2 for higher current. Up to four converters may be (See Datasheet)", 11 VIN3 (power) "Buck Regulator 3 Input Supply. Bypass to GND with a 10uF or larger ceramic capacitor. May be driven by an independent supply or must be shorted to VIN2 when buck regulator 3 is combined with buck regulator 2 for higher (See Datasheet)", 12 SW3 (power) "Buck Regulator 3 Switch Node. External inductor connects to this pin.", 13 SW4 (power) "Buck Regulator 4 Switch Node. External inductor connects to this pin.", 14 VIN4 (power) "Buck Regulator 4 Input Supply. Bypass to GND with a 10uF or larger ceramic capacitor. May be driven by an independent supply or must be shorted to VIN3 when buck regulator 4 is combined with buck regulator 3 for higher (See Datasheet)", 15 FB4 (in) "Buck Regulator 4 Feedback Pin. Receives feedback by a resistor divider connected across the output. Connecting FB4 to VIN4 combines buck regulator 4 with buck regulator 3 for higher current. Up to four converters may be (See Datasheet)", 16 EN4 (in) "Buck Regulator 4 Enable Input. Active high.", 17 EN3 (in) "Buck Regulator 3 Enable Input. Active high.", 21 EN6 (in) "Buck Regulator 6 Enable Input. Active high.", 22 EN5 (in) "Buck Regulator 5 Enable Input. Active high.", 23 FB5 (in) "Buck Regulator 5 Feedback Pin. Receives feedback by a resistor divider connected across the output. Connecting FB5 to VIN5 combines buck regulator 5 with buck regulator 4 for higher current. Up to four converters may be (See Datasheet)", 24 VIN5 (power) "Buck Regulator 5 Input Supply. Bypass to GND with a 10uF or larger ceramic capacitor. May be driven by an independent supply or must be shorted to VIN4 when buck regulator 5 is combined with buck regulator 4 for higher (See Datasheet)", 25 SW5 (power) "Buck Regulator 5 Switch Node. External inductor connects to this pin.", 26 SW6 (power) "Buck Regulator 6 Switch Node. External inductor connects to this pin.", 27 VIN6 (power) "Buck Regulator 6 Input Supply. Bypass to GND with a 10uF or larger ceramic capacitor. May be driven by an independent supply or must be shorted to VIN5 when buck regulator 6 is combined with buck regulator 5 for higher (See Datasheet)", 28 FB6 (in) "Buck Regulator 6 Feedback Pin. Receives feedback by a resistor divider connected across the output. Connecting FB6 to VIN6 combines buck regulator 6 with buck regulator 5 for higher current. Up to four converters may be (See Datasheet)", 29 FB7 (in) "Buck Regulator 7 Feedback Pin. Receives feedback by a resistor divider connected across the output. Connecting FB7 to VIN7 combines buck regulator 7 with buck regulator 6 for higher current. Up to four converters may be (See Datasheet)", 30 VIN7 (power) "Buck Regulator 7 Input Supply. Bypass to GND with a 10uF or larger ceramic capacitor. May be driven by an independent supply or must be shorted to VIN6 when buck regulator 7 is combined with buck regulator 6 for higher (See Datasheet)", 31 SW7 (power) "Buck Regulator 7 Switch Node. External inductor connects to this pin.", 32 SW8 (power) "Buck Regulator 8 Switch Node. External inductor connects to this pin.", 33 VIN8 (power) "Buck Regulator 8 Input Supply. Bypass to GND with a 10uF or larger ceramic capacitor. May be driven by an independent supply or must be shorted to VIN7 when buck regulator 8 is combined with buck regulator 7 for higher (See Datasheet)", 34 FB8 (in) "Buck Regulator 8 Feedback Pin. Receives feedback by a resistor divider connected across the output. Connecting FB8 to VIN8 combines buck regulator 8 with buck regulator 7 for higher current. Up to four converters may be (See Datasheet)", 35 EN8 (in) "Buck Regulator 8 Enable Input. Active high.", 36 EN7 (in) "Buck Regulator 7 Enable Input. Active high."
part B pins: 1 TEMP (out) "Temperature Indication Pin. TEMP outputs a voltage of 150mV (typical) at room temperature. The TEMP voltage will change by 6.75mV/degreesC (typical) giving an external indication of the LTC3374 internal die temperature.", 18 PGOOD_ALL (oc) "PGOOD Status Pin. Opendrain output. When the regulated output voltage of any enabled switching regulator is more than 7.5% below its programmed level, this pin is driven LOW. When all buck regulators are disabled PGOOD_ALL (See Datasheet)", 19 SYNC (in) "Oscillator Synchronization Pin. Driving SYNC with an external clock signal will synchronize all switchers to the applied frequency. The slope compensation is automatically adapted to the external clock frequency. The absence (See Datasheet)", 20 RT "Oscillator Frequency Pin. This pin provides two modes of setting the switching frequency. Connecting a resistor from RT to ground will set the switching frequency based on the resistor value. If RT is tied to VCC the (See Datasheet)", 37 MODE (in) "Logic Input. MODE enables Burst Mode functionality for all the buck switching regulators when the pin is set low. When the pin is set high, all the buck switching regulators will operate in forced continuous mode.", 38 VCC (power) "Internal Bias Supply. Bypass to GND with a 10uF or larger ceramic capacitor.", 39 EP (power) "Ground. The exposed pad must be connected to a continuous ground plane on the printed circuit board directly under the LTC3374 for electrical contact and rated thermal performance."

## LTC3374EUHF#PBF
designator U?
8-Channel Parallelable 1 A Buck Regulator, 38-pin QFN (UHF-38), -40 to 125 degC, Pb-Free; Manufacturer: Linear Technology; PartNumber: LTC3374EUHF#PBF; Number of Outputs: 8; PackageReference: UHF-38; PackageDescription: 38-Pin Plastic QFN, Body 7 x 5 mm, Pitch 0.5 mm; Supplier 1: Digi-Key; Supplier Part Number 1: LTC3374EUHF#PBF-ND; RoHS: TRUE; Code_JEDEC: MO-220
footprint LT-UHF-38_N (QFN, 38-Leads, Body 7.1x5.1mm, Pitch 0.5mm, Thermal Pad 3.15x5.15mm, IPC Medium Density)
footprint LT-UHF-38_L (QFN, 38-Leads, Body 7.1x5.1mm, Pitch 0.5mm, Thermal Pad 3.15x5.15mm, IPC High Density)
footprint LT-UHF-38_M (QFN, 38-Leads, Body 7.1x5.1mm, Pitch 0.5mm, Thermal Pad 3.15x5.15mm, IPC Low Density)
part A pins: 1 FB1 (in) "Buck Regulator 1 Feedback Pin. Receives feedback by a resistor divider connected across the output.", 2 VIN1 (power) "Buck Regulator 1 Input Supply. Bypass to GND with a 10uF or larger ceramic capacitor.", 3 SW1 (power) "Buck Regulator 1 Switch Node. External inductor connects to this pin.", 4 SW2 (power) "Buck Regulator 2 Switch Node. External inductor connects to this pin.", 5 VIN2 (power) "Buck Regulator 2 Input Supply. Bypass to GND with a 10uF or larger ceramic capacitor. May be driven by an independent supply or must be shorted to VIN1 when buck regulator 2 is combined with buck regulator 1 for higher (See Datasheet)", 6 FB2 (in) "Buck Regulator 2 Feedback Pin. Receives feedback by a resistor divider connected across the output. Connecting FB2 to VIN2 combines buck regulator 2 with buck regulator 1 for higher current. Up to four converters may be (See Datasheet)", 7 FB3 (in) "Buck Regulator 3 Feedback Pin. Receives feedback by a resistor divider connected across the output. Connecting FB3 to VIN3 combines buck regulator 3 with buck regulator 2 for higher current. Up to four converters may be (See Datasheet)", 8 VIN3 (power) "Buck Regulator 3 Input Supply. Bypass to GND with a 10uF or larger ceramic capacitor. May be driven by an independent supply or must be shorted to VIN2 when buck regulator 3 is combined with buck regulator 2 for higher (See Datasheet)", 9 SW3 (power) "Buck Regulator 3 Switch Node. External inductor connects to this pin.", 10 SW4 (power) "Buck Regulator 4 Switch Node. External inductor connects to this pin.", 11 VIN4 (power) "Buck Regulator 4 Input Supply. Bypass to GND with a 10uF or larger ceramic capacitor. May be driven by an independent supply or must be shorted to VIN3 when buck regulator 4 is combined with buck regulator 3 for higher (See Datasheet)", 12 FB4 (in) "Buck Regulator 4 Feedback Pin. Receives feedback by a resistor divider connected across the output. Connecting FB4 to VIN4 combines buck regulator 4 with buck regulator 3 for higher current. Up to four converters may be (See Datasheet)", 13 EN4 (in) "Buck Regulator 4 Enable Input. Active high.", 14 EN3 (in) "Buck Regulator 3 Enable Input. Active high.", 18 EN6 (in) "Buck Regulator 6 Enable Input. Active high.", 19 EN5 (in) "Buck Regulator 5 Enable Input. Active high.", 20 FB5 (in) "Buck Regulator 5 Feedback Pin. Receives feedback by a resistor divider connected across the output. Connecting FB5 to VIN5 combines buck regulator 5 with buck regulator 4 for higher current. Up to four converters may be (See Datasheet)", 21 VIN5 (power) "Buck Regulator 5 Input Supply. Bypass to GND with a 10uF or larger ceramic capacitor. May be driven by an independent supply or must be shorted to VIN4 when buck regulator 5 is combined with buck regulator 4 for higher (See Datasheet)", 22 SW5 (power) "Buck Regulator 5 Switch Node. External inductor connects to this pin.", 23 SW6 (power) "Buck Regulator 6 Switch Node. External inductor connects to this pin.", 24 VIN6 (power) "Buck Regulator 6 Input Supply. Bypass to GND with a 10uF or larger ceramic capacitor. May be driven by an independent supply or must be shorted to VIN5 when buck regulator 6 is combined with buck regulator 5 for higher (See Datasheet)", 25 FB6 (in) "Buck Regulator 6 Feedback Pin. Receives feedback by a resistor divider connected across the output. Connecting FB6 to VIN6 combines buck regulator 6 with buck regulator 5 for higher current. Up to four converters may be (See Datasheet)", 26 FB7 (in) "Buck Regulator 7 Feedback Pin. Receives feedback by a resistor divider connected across the output. Connecting FB7 to VIN7 combines buck regulator 7 with buck regulator 6 for higher current. Up to four converters may be (See Datasheet)", 27 VIN7 (power) "Buck Regulator 7 Input Supply. Bypass to GND with a 10uF or larger ceramic capacitor. May be driven by an independent supply or must be shorted to VIN6 when buck regulator 7 is combined with buck regulator 6 for higher (See Datasheet)", 28 SW7 (power) "Buck Regulator 7 Switch Node. External inductor connects to this pin.", 29 SW8 (power) "Buck Regulator 8 Switch Node. External inductor connects to this pin.", 30 VIN8 (power) "Buck Regulator 8 Input Supply. Bypass to GND with a 10uF or larger ceramic capacitor. May be driven by an independent supply or must be shorted to VIN7 when buck regulator 8 is combined with buck regulator 7 for higher (See Datasheet)", 31 FB8 (in) "Buck Regulator 8 Feedback Pin. Receives feedback by a resistor divider connected across the output. Connecting FB8 to VIN8 combines buck regulator 8 with buck regulator 7 for higher current. Up to four converters may be (See Datasheet)", 32 EN8 (in) "Buck Regulator 8 Enable Input. Active high.", 33 EN7 (in) "Buck Regulator 7 Enable Input. Active high.", 37 EN2 (in) "Buck Regulator 2 Enable Input. Active high.", 38 EN1 (in) "Buck Regulator 1 Enable Input. Active high."
part B pins: 15 PGOOD_ALL (oc) "PGOOD Status Pin. Opendrain output. When the regulated output voltage of any enabled switching regulator is more than 7.5% below its programmed level, this pin is driven LOW. When all buck regulators are disabled PGOOD_ALL (See Datasheet)", 16 SYNC (in) "Oscillator Synchronization Pin. Driving SYNC with an external clock signal will synchronize all switchers to the applied frequency. The slope compensation is automatically adapted to the external clock frequency. The absence (See Datasheet)", 17 RT "Oscillator Frequency Pin. This pin provides two modes of setting the switching frequency. Connecting a resistor from RT to ground will set the switching frequency based on the resistor value. If RT is tied to VCC the (See Datasheet)", 34 MODE (in) "Logic Input. MODE enables Burst Mode functionality for all the buck switching regulators when the pin is set low. When the pin is set high, all the buck switching regulators will operate in forced continuous mode.", 35 VCC (power) "Internal Bias Supply. Bypass to GND with a 10uF or larger ceramic capacitor.", 36 TEMP (out) "Temperature Indication Pin. TEMP outputs a voltage of 150mV (typical) at room temperature. The TEMP voltage will change by 6.75mV/degreesC (typical) giving an external indication of the LTC3374 internal die temperature.", 39 EP (power) "Ground. The exposed pad must be connected to a continuous ground plane on the printed circuit board directly under the LTC3374 for electrical contact and rated thermal performance."